# Altium footprint library Regulator.PcbLib: 5 footprints
Each footprint in its own frame and in the unit in brackets; x right, y up, seen from the top. Pads: shape width x height; smd on the part's side, far side on the other; paste and mask are expansions set on the pad; w line width, h text height; cw(c..) or ccw(c..) is an arc to the next point about the centre after c.
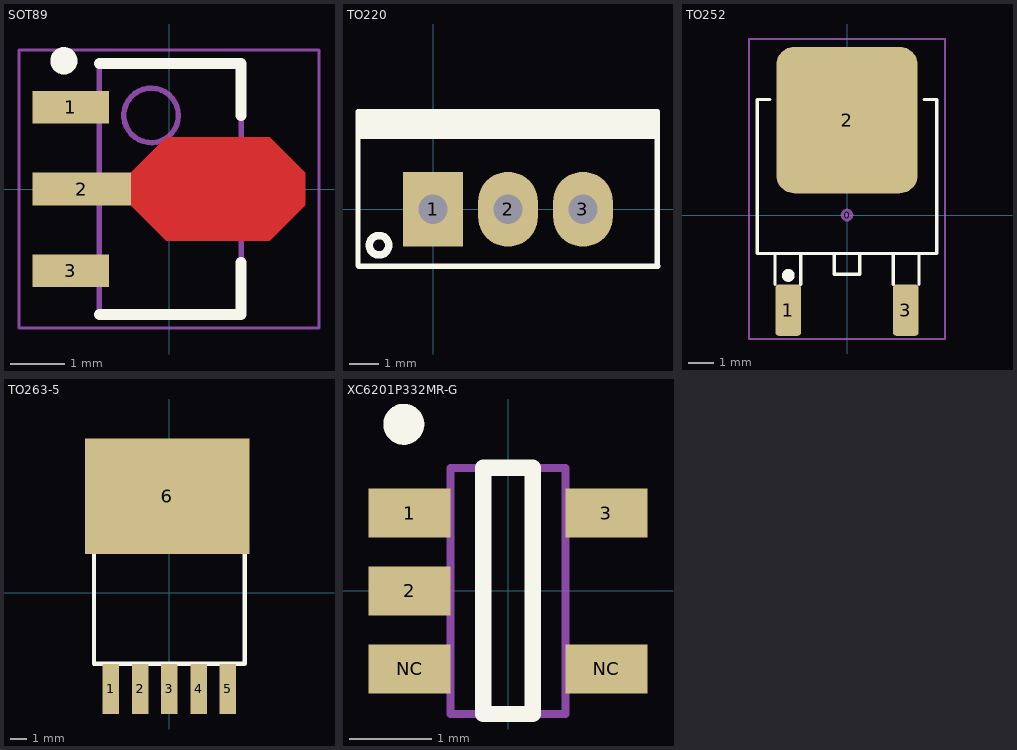
[diagram p0: the footprints below, top view; thin cyan lines are the x and y axes]

## SOT89 [mm] "SOT89, 3-Leads, Body 4.55x2.55mm, Pitch 1.50mm, Lead Span 4.1mm, IPC Medium Density"
height 1.5
pads (3):
  rect 1.4x0.6 smd: 1(-1.8,1.5) 3(-1.8,-1.5)
  rect 1.8x0.6 smd: 2(-1.6,0)
Top Layer:
  region: -0.7,0.3 -0.05,0.95 1.85,0.95 2.5,0.3 2.5,-0.3 1.85,-0.95 -0.05,-0.95 -0.7,-0.3
Top Overlay:
  circle w0.25: c-1.927,2.35 r0.125
  lines w0.2: -1.278,-2.3 1.322,-2.3 1.322,-1.35 ; -1.278,2.3 1.322,2.3 1.322,1.35
Mechanical 13:
  circle w0.1: c-0.327,1.35 r0.5
  lines w0.1: -1.278,-2.3 -1.278,2.3 1.322,2.3 1.322,-2.3 -1.278,-2.3
Mechanical 15:
  lines w0.05: -2.75,-2.55 -2.75,2.55 2.75,2.55 2.75,-2.55 -2.75,-2.55
  lines w0.1: -0.477,0 0.523,0 ; 0.022,-0.5 0.022,0.5
3D body "CircuitWorks-SOT89.step": height 1.5, standoff 0, extent -2.159,-2.25 1.841,2.25

## TO220 [mil] "TO-220"
height 200
pads (3):
  rect 80x100 hole 39: 1(0,0)
  oval 80x100 hole 39: 2(100,0) 3(200,0)
Top Overlay:
  circle w10: c-72.03,-48 r12.97
  rectangle: -99,94 300,130
  lines w7: 298,107 299,93 ; -100,-75 -99,-76 -76,-76 300,-76 299,-75 299,130 -100,130 -100,-75
3D body "User Library-TO-220-1.STEP": height 322.83, standoff -810.24, extent -94.88,-80 294.88,97.17

## TO252 [mm] "TO252"
pads (4):
  round 0.5 on Mech15: 0(0,0)
  rrect25% 1x2 smd: 1(-2.285,-3.7) 3(2.285,-3.7)
  rrect25% 5.5x5.7 smd: 2(0,3.7)
Top Overlay:
  circle w0.25: c-2.285,-2.35 r0.125
  lines w0.127: -3,4.5 -3.5,4.5 -3.5,-1.5 3.5,-1.5 3.5,4.5 3,4.5 ; -2.8,-2.7 -2.8,-1.5 -1.8,-1.5 -1.8,-2.7 ; 1.8,-2.7 1.8,-1.5 2.8,-1.5 2.8,-2.7 ; -0.5,-2.3 -0.5,-1.5 0.5,-1.5 0.5,-2.3 -0.5,-2.3
Mechanical 15:
  lines w0.076: -3.81,-4.826 -3.81,6.858 3.81,6.858 3.81,-4.826 -3.81,-4.826
3D body "DPAK.stp": height 2.31, standoff 0, extent -3.3,-3.951 3.3,5.762

## TO263-5 [mil] "TO263-5"
pads (6):
  rect 39.37x120 smd: 1(-140,-230) 2(-70,-230) 3(0,-230) 4(70,-230) 5(140,-230)
  rect 393.7x275.59 smd: 6(-5,230)
Top Overlay:
  lines w10: -160,170 -160,240 -140,260 140,260 160,240 160,170 ; -180,-170 -180,170 180,170 180,-170 -180,-170
3D body "TO-263-5.STEP": height 180.12, standoff 0.6, extent -200,-241.79 200,309.98

## XC6201P332MR-G [mm] "SOT23, 5-Leads, Body 2.90x2.45mm, Pitch 0.95mm, IPC Medium Density"
height 1.1
pads (5):
  rect 1x0.6 smd: 1(-1.2,0.95) 2(-1.2,0) 3(1.2,0.95) NC(-1.2,-0.95) NC(1.2,-0.95)
Top Overlay:
  circle w0.25: c-1.27,2.032 r0.125
  lines w0.2: -0.3,-1.5 -0.3,1.5 0.3,1.5 0.3,-1.5 -0.3,-1.5
Mechanical 13:
  lines w0.1: -0.7,-1.5 0.7,-1.5 0.7,1.5 -0.7,1.5 -0.7,-1.5
3D body "CircuitWorks-SOT-23-5.STEP": height 1.06, standoff -0.04, extent -1.25,-1.5 1.25,1.5